# Altium footprint library GRM21BR61H106KE43L.PcbLib: 4 footprints
Each footprint in its own frame and in the unit in brackets; x right, y up, seen from the top. Pads: shape width x height; smd on the part's side, far side on the other; paste and mask are expansions set on the pad; w line width, h text height; cw(c..) or ccw(c..) is an arc to the next point about the centre after c.
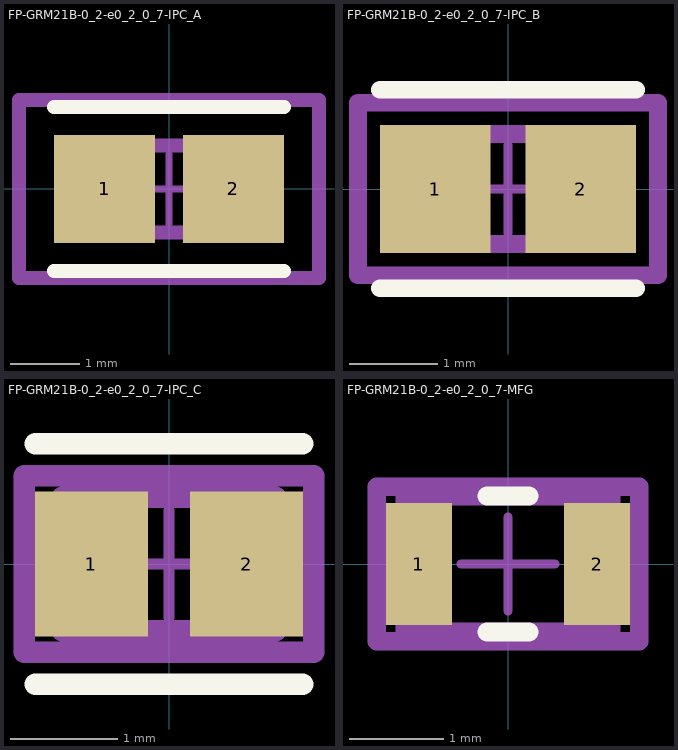
[diagram p0: the footprints below, top view; thin cyan lines are the x and y axes]

## FP-GRM21B-0_2-e0_2_0_7-IPC_A [mm]
pads (2):
  rect 1.455x1.556 smd paste+0 mask+0: 1(-0.926,0) 2(0.926,0)
Top Overlay:
  lines w0.2: -1.653,-1.178 1.653,-1.178 ; -1.653,1.178 1.653,1.178
Top Assembly:
  lines w0.2: -2.153,-1.278 -2.153,1.278 2.153,1.278 2.153,-1.278 -2.153,-1.278
  text ".Designator" at 0,0.188 h1
Top 3D Body:
  lines w0.2: -1,-0.625 -1,0.625 1,0.625 1,-0.625 -1,-0.625
Top Courtyard:
  lines w0.2: -2.153,-1.278 -2.153,1.278 2.153,1.278 2.153,-1.278 -2.153,-1.278
Top Component Center:
  lines w0.1: -0.5,0 0.5,0 ; 0,-0.5 0,0.5
3D body "Cap_Murata_GRM21BC71C106KE11L_eec.STEP": height 0.25, standoff 0, extent -2.153,-1.278 2.153,1.278

## FP-GRM21B-0_2-e0_2_0_7-IPC_B [mm]
pads (2):
  rect 1.255x1.456 smd paste+0 mask+0: 1(-0.826,0) 2(0.826,0)
Top Overlay:
  lines w0.2: -1.453,-1.128 1.453,-1.128 ; -1.453,1.128 1.453,1.128
Top Assembly:
  lines w0.2: -1.703,-0.978 1.703,-0.978 1.703,0.978 -1.703,0.978 -1.703,-0.978
  text ".Designator" at 0,0.188 h1
Top 3D Body:
  lines w0.2: -1,-0.625 1,-0.625 1,0.625 -1,0.625 -1,-0.625
Top Courtyard:
  lines w0.2: -1.703,-0.978 1.703,-0.978 1.703,0.978 -1.703,0.978 -1.703,-0.978
Top Component Center:
  lines w0.1: -0.5,0 0.5,0 ; 0,-0.5 0,0.5
3D body "Cap_Murata_GRM21BC71C106KE11L_eec.STEP": height 0.25, standoff 0, extent -1.703,-0.978 1.703,0.978

## FP-GRM21B-0_2-e0_2_0_7-IPC_C [mm]
pads (2):
  rect 1.055x1.356 smd paste+0 mask+0: 1(-0.726,0) 2(0.726,0)
Top Overlay:
  lines w0.2: -1.253,-1.125 1.253,-1.125 ; -1.253,1.125 1.253,1.125
Top Assembly:
  lines w0.2: -1.353,-0.825 1.353,-0.825 1.353,0.825 -1.353,0.825 -1.353,-0.825
  text ".Designator" at 0,0.188 h1
Top 3D Body:
  lines w0.2: -1,-0.625 1,-0.625 1,0.625 -1,0.625 -1,-0.625
Top Courtyard:
  lines w0.2: -1.353,-0.825 1.353,-0.825 1.353,0.825 -1.353,0.825 -1.353,-0.825
Top Component Center:
  lines w0.1: -0.5,0 0.5,0 ; 0,-0.5 0,0.5
3D body "Cap_Murata_GRM21BC71C106KE11L_eec.STEP": height 0.25, standoff 0, extent -1.353,-0.825 1.353,0.825

## FP-GRM21B-0_2-e0_2_0_7-MFG [mm]
pads (2):
  rect 0.7x1.3 smd paste+0 mask+0: 1(-0.95,0) 2(0.95,0)
Top Overlay:
  lines w0.2: -0.225,-0.725 0.225,-0.725 ; -0.225,0.725 0.225,0.725
Top Assembly:
  lines w0.2: -1.4,-0.825 1.4,-0.825 1.4,0.825 -1.4,0.825 -1.4,-0.825
  text ".Designator" at 0,0.188 h1
Top 3D Body:
  lines w0.2: -1.1,-0.725 1.1,-0.725 1.1,0.725 -1.1,0.725 -1.1,-0.725
Top Courtyard:
  lines w0.2: -1.4,-0.825 1.4,-0.825 1.4,0.825 -1.4,0.825 -1.4,-0.825
Top Component Center:
  lines w0.1: -0.5,0 0.5,0 ; 0,-0.5 0,0.5
3D body "Cap_Murata_GRM21BC71C106KE11L_eec.STEP": height 0.25, standoff 0, extent -1.4,-0.825 1.4,0.825